# Altium footprint library CSD15380F3T.PcbLib: 1 footprints
Each footprint in its own frame and in the unit in brackets; x right, y up, seen from the top. Pads: shape width x height; smd on the part's side, far side on the other; paste and mask are expansions set on the pad; w line width, h text height; cw(c..) or ccw(c..) is an arc to the next point about the centre after c.
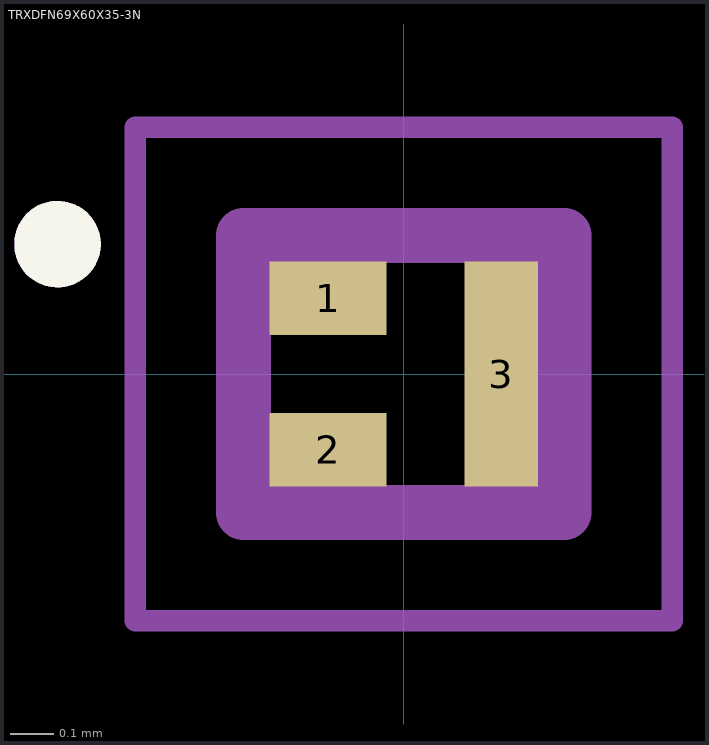
[diagram p0: the footprint, top view; thin cyan lines are the x and y axes]

## TRXDFN69X60X35-3N [mm]
pads (3):
  rect 0.27x0.17 smd mask+0.05: 1(-0.175,0.175) 2(-0.175,-0.175)
  rect 0.17x0.52 smd mask+0.05: 3(0.225,0)
Top Overlay:
  circle w0.1: c-0.8,0.3 r0.05
Mechanical 13:
  circle w0.1: c-0.8,0.3 r0.05
  lines w0.127: -0.37,-0.32 -0.37,0.32 0.37,0.32 0.37,-0.32 -0.37,-0.32
Mechanical 15:
  lines w0.05: -0.62,-0.57 -0.62,0.57 0.62,0.57 0.62,-0.57 -0.62,-0.57
3D body "step_temp.STEP": height 0.35, standoff 0, extent -0.345,-0.3 0.345,0.3